# Altium integrated library ECEN5730Lib_JLC_2021_08.IntLib: 87 symbols
Pins are listed as number, name and electrical type; pins without a type are passive.

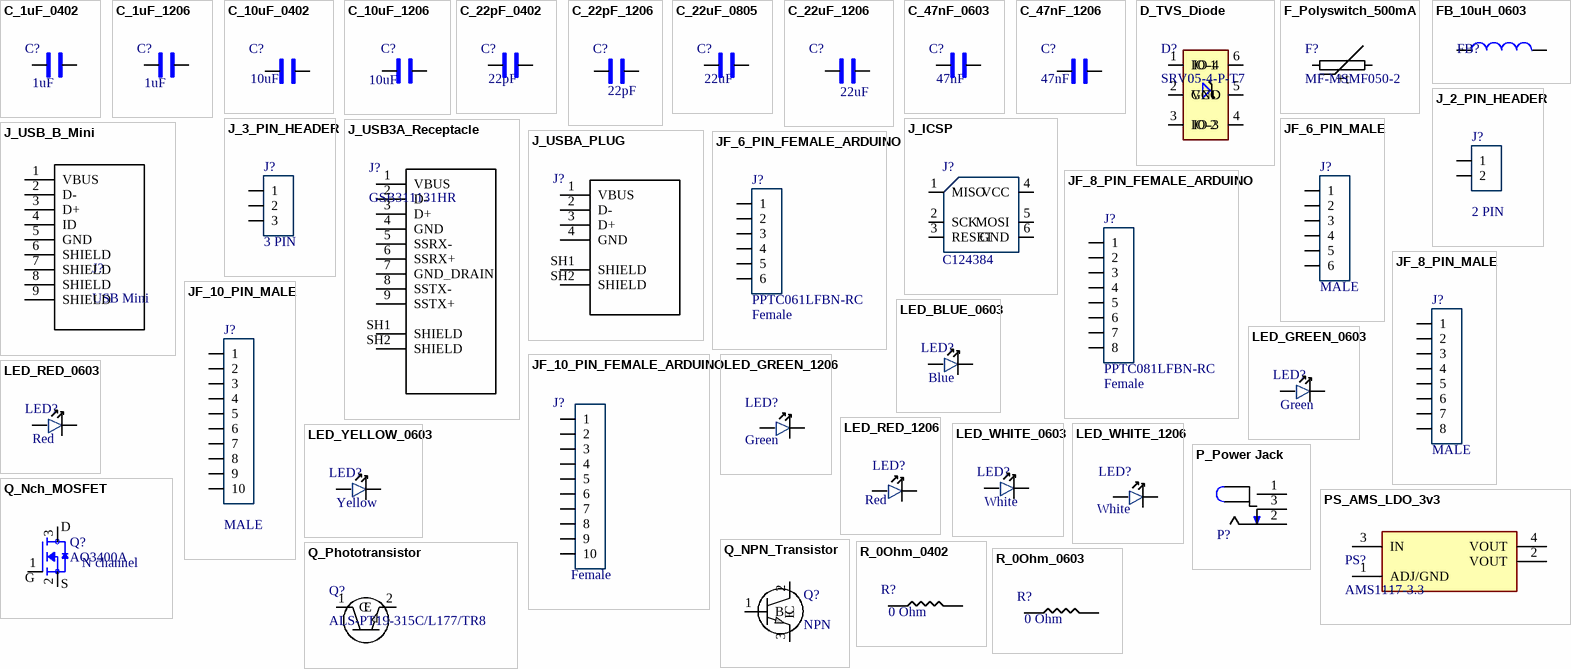
[diagram p0: symbols C_1uF_0402 to R_0Ohm_0603]

## C_1uF_0402
designator C?, comment 1uF
MULTILAYER CERAMIC CAPACITORS MLCC - SMD/SMT 1UF 25V 0402 ROHS; MFR Part #: CL05A105KA5NQNC; Type: Basic; Datasheet: https://datasheet.lcsc.com/szlcsc/Samsung-Electro-Mechanics-CL05A105KA5NQNC_C52923.pdf; LCSC Part#: C52923; Value: 1uF
footprint 0402_Passive_Capacitor (Reference: https://www.worthingtonassembly.com/perfect-0402-footprint)
pins: 1, 2

## C_1uF_1206
designator C?, comment 1uF
MULTILAYER CERAMIC CAPACITORS MLCC - SMD/SMT 1UF 50V 1206 ROHS; MFR Part #: CL31B105KBHNNNE; Type: Basic; Digikey Link: https://www.digikey.com/product-detail/en/C1206C105M4RACTU/399-8150-1-ND/3471873/?itemSeq=304982366; Digikey Part: 399-8150-1-ND; LCSC Part#: C1848; Value: 1uF
footprint 1206_Passive_Capacitor
pins: 1, 2

## C_10uF_0402
designator C?, comment 10uF
10uF ±20% 6.3V X5R 0402 Multilayer Ceramic Capacitors MLCC - SMD/SMT RoHS; MFR Part #: CL05A106MQ5NUNC; Type: Basic; LCSC Part#: C15525; Datasheet: https://datasheet.lcsc.com/lcsc/1810191215_Samsung-Electro-Mechanics-CL05A106MQ5NUNC_C15525.pdf; Value: 10uF
footprint 0402_Passive_Capacitor (Reference: https://www.worthingtonassembly.com/perfect-0402-footprint)
pins: 1, 2

## C_10uF_1206
designator C?, comment 10uF
10uF ±10% 50V X5R 1206 Multilayer Ceramic Capacitors MLCC - SMD/SMT RoHS; MFR Part #: CL31A106KBHNNNE; Type: Basic; LCSC Part#: C13585; Datasheet: https://datasheet.lcsc.com/lcsc/1810221112_Samsung-Electro-Mechanics-CL31A106KBHNNNE_C13585.pdf; Value: 10uF
footprint 1206_Passive_Capacitor
pins: 1, 2

## C_22pF_0402
designator C?, comment 22pF
MULTILAYER CERAMIC CAPACITORS MLCC - SMD/SMT 22PF 50V 0402 ROHS; MFR Part #: 0402CG220J500NT; Type: Basic; Datasheet: https://datasheet.lcsc.com/szlcsc/Guangdong-Fenghua-Advanced-Tech-0402CG220J500NT_C1555.pdf; LCSC Part#: C1555; Value: 22pF
footprint 0402_Passive_Capacitor (Reference: https://www.worthingtonassembly.com/perfect-0402-footprint)
pins: 1, 2

## C_22pF_1206
designator C?, comment 22pF
/ 22pF ±5% 1kV C0G 1206 Multilayer Ceramic Capacitors MLCC - SMD/SMT RoHS; MFR Part #: 1206CG220J102NT; Type: Extended; LCSC Part#: C313096; Datasheet: https://datasheet.lcsc.com/lcsc/1810311150_FH-Guangdong-Fenghua-Advanced-Tech-1206CG220J102NT_C313096.pdf; Value: 22pF
footprint 1206_Passive_Capacitor
pins: 1, 2

## C_22uF_0805
designator C?, comment 22uF
MULTILAYER CERAMIC CAPACITORS MLCC - SMD/SMT 22UF 25V 0805 ROHS; MFR Part #: CL21A226MAQNNNE; Type: Basic; Datasheet: https://datasheet.lcsc.com/szlcsc/Samsung-Electro-Mechanics-CL21A226MAQNNNE_C45783.pdf; LCSC Part#: C45783; Value: 22uF
footprint 0805_Passive_Capaciitor (Reference: http://livepartlibrary.com/fpdimensions.html)
pins: 1, 2

## C_22uF_1206
designator C?, comment 22uF
22uF ±10% 25V X5R 1206 Multilayer Ceramic Capacitors MLCC - SMD/SMT RoHS; MFR Part #: CL31A226KAHNNNE; Type: Extended; LCSC Part#: C12891; Datasheet: https://datasheet.lcsc.com/lcsc/1811031514_Samsung-Electro-Mechanics-CL31A226KAHNNNE_C12891.pdf; Value: 22uF
footprint 1206_Passive_Capacitor
pins: 1, 2

## C_47nF_0603
designator C?, comment 47nF
MULTILAYER CERAMIC CAPACITORS MLCC - SMD/SMT 47NF 50V 0603 ROHS; MFR Part #: CL10B473KB8NNNC; Type: Basic; Datasheet: https://datasheet.lcsc.com/szlcsc/Samsung-Electro-Mechanics-CL10B473KB8NNNC_C1622.pdf; LCSC Part#: C1622; Value: 47nF
footprint 0603_PASSIVE_Capacitor (Reference: http://livepartlibrary.com/fpdimensions.html)
pins: 1, 2

## C_47nF_1206
designator C?, comment 47nF
47nF ±5% 50V C0G 1206 Multilayer Ceramic Capacitors MLCC - SMD/SMT RoHS; MFR Part #: GRM31M5C1H473JA01L; Type: Extended; LCSC Part#: C21812; Datasheet: https://datasheet.lcsc.com/lcsc/1810201313_Murata-Electronics-GRM31M5C1H473JA01L_C21812.pdf; Value: 47nF
footprint 1206_Passive_Capacitor
pins: 1, 2

## D_TVS_Diode
designator D?, comment SRV05-4-P-T7
TVS SOT-23-6 ROHS; Value: TVS DIODE 5.5V 6TSOP; Type: Basic; MFR Part #: SRV05-4-P-T7; LCSC Part#: C85364; Datasheet: https://datasheet.lcsc.com/szlcsc/ProTek-Devices-SRV05-4-P-T7_C85364.pdf
footprint TVS
pins: 1 IO-1, 2 GND, 3 IO-2, 4 IO-3, 5 VCC, 6 IO-4

## F_Polyswitch_500mA
designator F?, comment MF-MSMF050-2
Polymeric PTC Resettable Fuse 15V 500mA Ih Surface Mount 1812 (4532 Metric), Concave; MFR Part #: SMD1812P020TF/30; Value: PTC RESET FUSE 15V 500MA 1812; Type: Extended; Digikey Link: https://www.digikey.com/product-detail/en/MF-MSMF050-2/MF-MSMF050-2CT-ND/662842/?itemSeq=304982360; Digikey Part: MF-MSMF050-2CT-ND; LCSC Part#: C13575
footprint FUSE
pins: 1, 2
text: +t

## FB_10uH_0603
designator FB?
10 uH, 30 Q, 1.85 Ohm Series Resistance, 17MHz Self Resonant Frequency,Inductor , SMD 0603, 3 Amps rated current; MFR Part #: SDFL1608S100KTF; Type: Basic; Datasheet: https://datasheet.lcsc.com/szlcsc/Sunlord-SDFL1608S100KTF_C1035.pdf; LCSC Part#: C1035
footprint 0603_PASSIVE_Capacitor (Reference: http://livepartlibrary.com/fpdimensions.html)
pins: 1, 2

## J_2_PIN_HEADER
designator J?, comment 2 PIN
2.54mm Straight 2 1 Header，Breakaway Through Hole,P=2.54mm Pin Header & Female Header ROHS; MFR Part #: MTP125-1102S1; Type: Extended; Datasheetxx: https://datasheet.lcsc.com/lcsc/1912111437_MINTRON-MTP125-1102S1_C358684.pdf; LCSC Part#: C358684; Value: 2 PIN
footprint 2_PIN_100MIL
pins: 1, 2

## J_3_PIN_HEADER
designator J?, comment 3 PIN
/ 3 2.54mm Straight 1 Header，Breakaway Through Hole Pin Header & Female Header ROHS; MFR Part #: C49257; Type: Extended; Datasheet: https://datasheet.lcsc.com/lcsc/1811132313_BOOMELE-Boom-Precision-Elec-C49257_C49257.pdf; LCSC Part#: C49257; Value: 3 PIN
footprint 3_PIN_100mil
pins: 1, 2, 3

## J_ICSP
designator J?, comment LCSC Part#: C124384  (hidden comment: NRPN032PAEN-RC)
Connector Header Through Hole 6 position 0.079" (2.00mm); Digikey Link: https://www.digikey.com/product-detail/en/NRPN032PAEN-RC/S5801-03-ND/804955/?itemSeq=304982355; Digikey Part: S5801-03-ND; Value: NRPN032PAEN-RC; Type: Extended
footprint ICSP
pins: 1 MISO, 2 SCK, 3 RESET, 4 VCC, 5 MOSI, 6 GND

## J_USB3A_Receptacle
designator J?, comment GSB311131HR
USB-A _USB TYPE-A_ USB 3.0 _USB 3.1 Gen 1, Superspeed_ Receptacle Connector 9 Position Through Hole, Right Angle; MFR Part #: 901-112A105AD10100; Digi-Key_Purchase_URL: https://www.digikey.ru/product-detail/en/amphenol-icc-commercial-products/GSB311131HR/GSB311131HR-ND/2187173?utm_source=snapeda&utm_medium=aggregator&utm_campaign=symbol; Datasheet: https://datasheet.lcsc.com/szlcsc/1811131822_Jing-Extension-of-the-Electronic-Co-901-112A105AD10100_C69073.pdf; MP: GSB311131HR; SnapEDA_Link: https://www.snapeda.com/parts/GSB311131HR/Amphenol%20FCI/view-part/229215/?ref=snap; LCSC Part#: C69073
footprint USB_3A_Receptacle
pins: 1 VBUS, 2 D-, 3 D+, 4 GND, 5 SSRX-, 6 SSRX+, 7 GND_DRAIN, 8 SSTX-, 9 SSTX+, SH1 SHIELD, SH2 SHIELD

## J_USB_B_Mini
designator J?, comment USB Mini
Through Hole USB Connectors RoHS; MFR Part #: 920-462A2021D10102; Value: USB mini B; LCSC Part#: C46398; Datasheet: https://datasheet.lcsc.com/szlcsc/2103081233_Jing-Extension-of-the-Electronic-Co-920-462A2021D10102_C46398.pdf; Type: Extended
footprint USB_MINI_B
pins: 1 VBUS, 2 D-, 3 D+, 4 ID, 5 GND, 6 SHIELD, 7 SHIELD, 8 SHIELD, 9 SHIELD

## J_USBA_PLUG
designator J?, comment USB - Type A Male  (value not drawn)
USB - Type A Male USB 2.0 4 18.7*12(mm) USB Connectors RoHS; MFR Part #: U-G-O4DD-W-1; LCSC Part#: C98125; Datasheet: https://datasheet.lcsc.com/szlcsc/1811131820_Korean-Hroparts-Elec-U-G-O4DD-W-1_C98125.pdf; Type: Extended
footprint USB_A_plug
pins: 1 VBUS, 2 D-, 3 D+, 4 GND, SH1 SHIELD, SH2 SHIELD

## JF_6_PIN_FEMALE_ARDUINO
designator J?, comment PPTC061LFBN-RC  value Female
6 Position Header Connector 0.100" (2.54mm) Through Hole Tin; Digikey Link: https://www.digikey.com/product-detail/en/PPTC061LFBN-RC/S7004-ND/810145/?itemSeq=304982353; Digikey Part: S7004-ND; LCSC Part#: C40877; Type: Extended
footprint 6_PIN_ARDUINO_100mil
pins: 1, 2, 3, 4, 5, 6

## JF_6_PIN_MALE
designator J?, comment MALE
Male header- 6 pin 1 row- through Hole; LCSC Part#: C37208; Datasheet: https://datasheet.lcsc.com/szlcsc/1810312320_BOOMELE-Boom-Precision-Elec-C37208_C37208.pdf; Type: Extended; Value: MALE
footprint 6_PIN_100MIL
pins: 1, 2, 3, 4, 5, 6

## JF_8_PIN_FEMALE_ARDUINO
designator J?, comment PPTC081LFBN-RC  value Female
8 Position Header Connector 0.100" (2.54mm) Through Hole Tin; Digikey Link: https://www.digikey.com/product-detail/en/PPTC081LFBN-RC/S7006-ND/810147/?itemSeq=304982354; Digikey Part: S7006-ND; Type: Extended; LCSC Part#: C27438
footprint 8_PIN_ARDUINO_100MIL
pins: 1, 2, 3, 4, 5, 6, 7, 8

## JF_8_PIN_MALE
designator J?, comment value MALE  (hidden comment: MALE 8PIN)
Pin Header 8 1 right-angle，180degrees 2.54mm Through Hole,P=2.54mm Pin Header & Female Header RoHS; LCSC Part#: C492407; Datasheet: https://datasheet.lcsc.com/szlcsc/2003191006_XFCN-PZ254V-11-08P_C492407.pdf; Type: Extended
footprint 8_PIN_100MIL
pins: 1, 2, 3, 4, 5, 6, 7, 8

## JF_10_PIN_FEMALE_ARDUINO
designator J?, comment value Female  (hidden comment: PPTC101LFBN-RC)
10 Position Header Connector 0.100" (2.54mm) Through Hole Tin; Digikey Link: https://www.digikey.com/product-detail/en/PPTC101LFBN-RC/S7008-ND/810149/?itemSeq=304982352; Digikey Part: S7008-ND; LCSC Part#: C225507; Type: Extended
footprint 10_PIN_ARDUINO_100MIL
pins: 1, 2, 3, 4, 5, 6, 7, 8, 9, 10

## JF_10_PIN_MALE
designator J?, comment value MALE  (hidden comment: MALE 10PIN)
Pin Header 10 1 right-angle，180degrees 2.54mm Through Hole,P=2.54mm Pin Header & Female Header RoHS; LCSC Part#: C124372; Type: Extended; Datasheet: https://datasheet.lcsc.com/szlcsc/1810241611_Ckmtw-Shenzhen-Cankemeng-C124372_C124372.pdf
footprint 10_PIN_100MIL
pins: 1, 2, 3, 4, 5, 6, 7, 8, 9, 10

## LED_BLUE_0603
designator LED?, comment value Blue  (hidden comment: KT-0603R)
LIGHT EMITTING DIODES (LED) BLUE 465~475NM 11.5~28.5MCD@5MA TOP VIEW 0603 ROHS; MFR Part #: 19-217/BHC-ZL1M2RY/3T; Type: Basic; LCSC Part#: C72041
footprint LED_0603
pins: 1, 2

## LED_GREEN_0603
designator LED?, comment value Green  (hidden comment: KT-0603R)
LIGHT EMITTING DIODES (LED) GREEN 520~535NM 112~258MCD@20MA TOP VIEW 0603 ROHS; MFR Part #: 19-217/GHC-YR1S2/3T; Type: Basic; LCSC Part#: C72043
footprint LED_0603
pins: 1, 2

## LED_GREEN_1206
designator LED?, comment Green
Green 513~528nm 1206 Light Emitting Diodes (LED) RoHS; MFR Part #: SZYY1206G; Type: Extended; LCSC Part#: C434439; Datasheet: https://datasheet.lcsc.com/lcsc/2006301532_Yongyu-Photoelectric-SZYY1206G_C434439.pdf; Value: Green
footprint LED_1206
pins: 1, 2

## LED_RED_0603
designator LED?, comment value Red  (hidden comment: KT-0603R)
LIGHT EMITTING DIODES (LED) RED 520~625NM 90~100MCD@20MA TOP VIEW 0603 ROHS; Type: Basic; Datasheet: https://datasheet.lcsc.com/szlcsc/Everlight-Elec-19-217-BHC-ZL1M2RY-3T_C72041.pdf; MFR Part #: KT-0603R; LCSC Part#: C2286
footprint LED_0603
pins: 1, 2

## LED_RED_1206
designator LED?, comment Red
Red 621~631nm 1206 Light Emitting Diodes (LED) RoHS; MFR Part #: 15-21/R6C-FQ1R1B/2T; Type: Extended; LCSC Part#: C93133; Datasheet: https://datasheet.lcsc.com/szlcsc/1811151241_Everlight-Elec-15-21-R6C-FQ1R1B-2T_C93133.pdf; Value: Red
footprint LED_1206
pins: 1, 2

## LED_WHITE_0603
designator LED?, comment value White  (hidden comment: KT-0603R)
LIGHT EMITTING DIODES (LED) WHITE 173~207MCD@20MA TOP VIEW 0603 ROHS; Type: Basic; MFR Part #: -; LCSC Part#: C2290
footprint LED_0603
pins: 1, 2

## LED_WHITE_1206
designator LED?, comment White
White 1206 Light Emitting Diodes (LED) RoHS; MFR Part #: OSM51206C1E; Type: Extended; LCSC Part#: C268282; Datasheet: https://datasheet.lcsc.com/lcsc/1912111437_OptoSupply-OSM51206C1E_C268282.pdf; Value: White
footprint LED_1206
pins: 1, 2

## LED_YELLOW_0603
designator LED?, comment value Yellow  (hidden comment: KT-0603R)
LIGHT EMITTING DIODES (LED) YELLOW 585.5~591.5NM 90~180MCD@20MA TOP VIEW 0603 ROHS; MFR Part #: 19-213/Y2C-CQ2R2L/3T(CY); Type: Basic; Datasheet: https://datasheet.lcsc.com/szlcsc/Everlight-Elec-19-217-BHC-ZL1M2RY-3T_C72041.pdf; LCSC Part#: C72038
footprint LED_0603
pins: 1, 2

## P_Power Jack
designator P?, comment Power Jack  (value not drawn)
Power Barrel Connector Jack 2.10mm ID (0.083"), 5.50mm OD (0.217") Through Hole, Right Angle; Value: CONN PWR JACK 2X5.5MM SOLDER; Digikey Link: https://www.digikey.com/product-detail/en/PJ-102A/CP-102A-ND/275425/?itemSeq=304982367; Digikey Part: CP-102A-ND; LCSC Part#: C136744; Type: Extended
footprint Power_Jack
pins: 1 (power), 2 (power), 3 (power)

## PS_AMS_LDO_3v3
designator PS?, comment AMS1117-3.3
LOW DROPOUT REGULATORS(LDO) POSITIVE FIXED 1.3V @ 800MA 15V 3.3V 1A SOT-223 ROHS; Value: IC REG LINEAR 3.3V 800MA SOT223; MFR Part #: AMS1117-3.3; LCSC Part#: C6186; Type: Basic
footprint LDO
pins: 1 ADJ/GND, 2 VOUT (power), 3 IN (power), 4 VOUT (power)

## Q_Nch_MOSFET
designator Q?, comment AO3400A  value N channel
MOSFET N Trench 30V 5.7A 1.5V @ 250uA 26.5 m? @ 5.7A,10V SOT-23-3L RoHS; Type: Basic; LCSC Part#: C20917; Datasheet: https://datasheet.lcsc.com/szlcsc/Alpha-Omega-Semicon-AOS-AO3400A_C20917.pdf; MFR Part #: AO3400A
footprint N-MOSFET
pins: 1 G, 2 S, 3 D

## Q_NPN_Transistor
designator Q?, comment NPN
NPN 3A 30V 500mW SOT-89(SOT-89-3) Transistors (NPN/PNP) RoHS; Type: Basic; Datasheet: https://datasheet.lcsc.com/lcsc/1809192311_Changjiang-Electronics-Tech-CJ-C9634_C9634.pdf; LCSC Part#: C9634; Value: NPN
footprint Q_SOT89-3
pins: 1 B, 2 C, 3 E

## Q_Phototransistor
designator Q?, comment ALS-PT19-315C/L177/TR8
Ambient Light Sensor; Type: Extended; Datasheet: https://www.everlight.com/file/ProductFile/201407061531031645.pdf; MFR Part #: ALS-PT19-315C/L177/TR8; LCSC Part#: C146233
footprint LED_77/TR8_EVE
pins: 1 C, 2 E

## R_0Ohm_0402
designator R?, comment 0 Ohm
CHIP RESISTOR - SURFACE MOUNT 0OHMS ±1% 1/16W 0402 ROHS; MFR Part #: 0402WGF0000TCE; Datasheet: https://datasheet.lcsc.com/szlcsc/Uniroyal-Elec-0402WGF0000TCE_C17168.pdf; LCSC Part#: C17168; Type: Basic; Value: 0 Ohm
footprint 0402_Passive_Resistor (Reference: https://www.worthingtonassembly.com/perfect-0402-footprint)
pins: 1, 2

## R_0Ohm_0603
designator R?, comment 0 Ohm
CHIP RESISTOR - SURFACE MOUNT 0OHMS ±1% 1/10W 0603 ROHS; MFR Part #: 0603WAF0000T5E; Datasheet: https://datasheet.lcsc.com/szlcsc/Uniroyal-Elec-0603WAF200KT5E_C22977.pdf; LCSC Part#: C21189; Type: Basic; Value: 0 Ohm
footprint 0603_PASSIVE_Resistor (Reference: http://livepartlibrary.com/fpdimensions.html)
pins: 1, 2

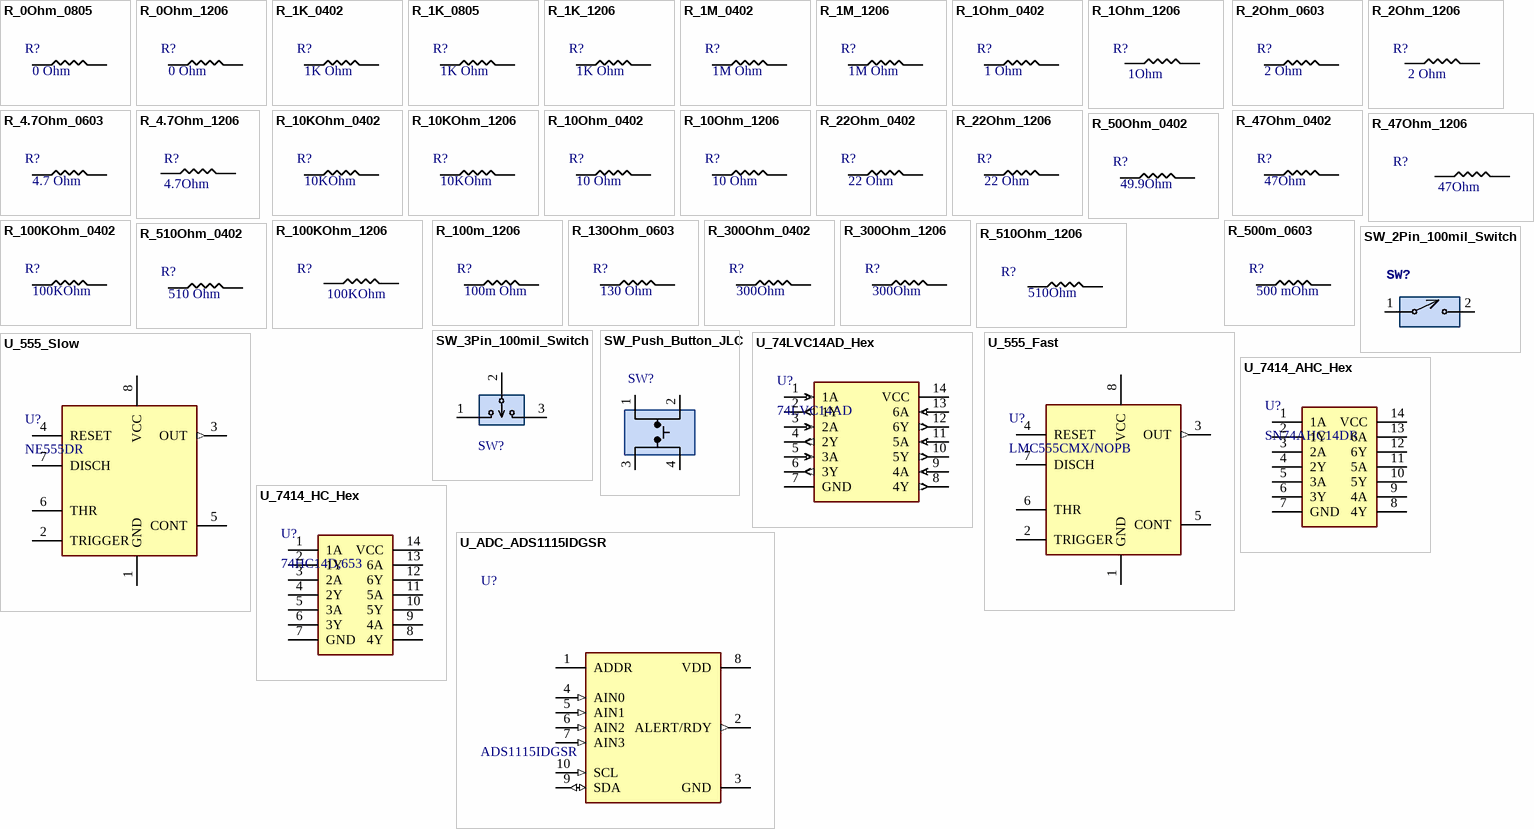
[diagram p1: symbols R_0Ohm_0805 to U_ADC_ADS1115IDGSR]

## R_0Ohm_0805
designator R?, comment value 0 Ohm  (hidden comment: 0)
CHIP RESISTOR - SURFACE MOUNT 0OHMS ±1% 1/8W 0805 ROHS; MFR Part#: 0805W8F0000T5E; LCSC Part #: C17477; Type: Basic
footprint 0805_Passive_Resistor (Reference: http://livepartlibrary.com/fpdimensions.html)
pins: 1, 2

## R_0Ohm_1206
designator R?, comment value 0 Ohm  (hidden comment: 0)
CHIP RESISTOR - SURFACE MOUNT 0OHMS ±1% 1/4W 1206 ROHS; Digikey Link: https://datasheet.lcsc.com/szlcsc/Uniroyal-Elec-1206W4F0000T5E_C17888.pdf; Digikey Part: 1206W4F0000T5E; LCSC Part#: C17888; Type: Basic
footprint 1206_Passive_Resitor
pins: 1, 2

## R_1K_0402
designator R?, comment value 1K Ohm  (hidden comment: 1k)
1 kOhms chip resistor SURFACE MOUNT 1KOHMS ±1% 1/16W 0402 ROHS; MFR Part #: 0402WGF1001TCE; Datasheet: https://datasheet.lcsc.com/szlcsc/Uniroyal-Elec-0402WGF1001TCE_C11702.pdf; LCSC Part#: C11702; Type: Basic
footprint 0402_Passive_Resistor (Reference: https://www.worthingtonassembly.com/perfect-0402-footprint)
pins: 1, 2

## R_1K_0805
designator R?, comment value 1K Ohm  (hidden comment: 1k)
CHIP RESISTOR - SURFACE MOUNT 1KOHMS ±1% 1/8W 0805 ROHS; MFR Part #: 0805W8F1001T5E; LCSC Part#: C17513; Type: Basic
footprint 0805_Passive_Resistor (Reference: http://livepartlibrary.com/fpdimensions.html)
pins: 1, 2

## R_1K_1206
designator R?, comment value 1K Ohm  (hidden comment: 1k)
CHIP RESISTOR - SURFACE MOUNT 1KOHMS ±1% 1/4W 1206 ROHS; MFR Part #: 1206W4F1001T5; Digikey Link: https://www.digikey.com/product-detail/en/RNCP1206FTD1K00/RNCP1206FTD1K00CT-ND/2240675/?itemSeq=304982373; Digikey Part: RNCP1206FTD1K00CT-ND; LCSC Part#: C4410; Type: Basic
footprint 1206_Passive_Resitor
pins: 1, 2

## R_1M_0402
designator R?, comment value 1M Ohm  (hidden comment: 1M)
CHIP RESISTOR - SURFACE MOUNT 1MOHMS ±1% 1/16W 0402 ROHS; MFR Part #: 0402WGF1004TCE; Datasheet: Uniroyal-Elec-0402WGF1004TCE_C26083.pdf; Digikey Part: https://datasheet.lcsc.com/szlcsc/Uniroyal-Elec-0402WGF1004TCE_C26083.pdf; LCSC Part#: C26083; Type: Basic
footprint 0402_Passive_Resistor (Reference: https://www.worthingtonassembly.com/perfect-0402-footprint)
pins: 1, 2

## R_1M_1206
designator R?, comment value 1M Ohm  (hidden comment: 1M)
CHIP RESISTOR - SURFACE MOUNT 1MOHMS ±1% 1/4W 1206 ROHS; Digikey Link: https://www.digikey.com/product-detail/en/RMCF1206JT1M00/RMCF1206JT1M00CT-ND/1942830/?itemSeq=304982358; Digikey Part: Number RMCF1206JT1M00CT-ND; LCSC Part#: C17927; Type: Basic
footprint 1206_Passive_Resitor
pins: 1, 2

## R_1Ohm_0402
designator R?, comment 1 Ohm
CHIP RESISTOR - SURFACE MOUNT 1OHMS ±1% 1/16W 0402 ROHS; MFR Part #: 0402WGF100KTCE; Datasheet: https://datasheet.lcsc.com/szlcsc/Uniroyal-Elec-0402WGF100KTCE_C25086.pdf; LCSC Part#: C25086; Type: Basic; Value: 1 Ohm
footprint 0402_Passive_Resistor (Reference: https://www.worthingtonassembly.com/perfect-0402-footprint)
pins: 1, 2

## R_1Ohm_1206
designator R?, comment value 1Ohm  (hidden comment: 1 Ohm)
1Ω ±5% 0.25W ±400ppm/℃ 1206 Chip Resistor - Surface Mount RoHS; MFR Part #: 1206W4J010JT5E; LCSC Part#: C1409; Datasheet: https://datasheet.lcsc.com/lcsc/1810301410_UNI-ROYAL-Uniroyal-Elec-1206W4J010JT5E_C1409.pdf; Type: Extended
footprint 1206_Passive_Resitor
pins: 1, 2

## R_2Ohm_0603
designator R?, comment 2 Ohm
CHIP RESISTOR - SURFACE MOUNT 2OHMS ±1% 1/10W 0603 ROHS; MFR Part #: 0603WAF200KT5E; Datasheet: https://datasheet.lcsc.com/szlcsc/Uniroyal-Elec-0603WAF200KT5E_C22977.pdf; LCSC Part#: C22977; Type: Basic; Value: 2 Ohm
footprint 0603_PASSIVE_Resistor (Reference: http://livepartlibrary.com/fpdimensions.html)
pins: 1, 2

## R_2Ohm_1206
designator R?, comment value 2 Ohm  (hidden comment: 2Ohm)
2Ω ±1% 0.25W ±400ppm/℃ 1206 Chip Resistor - Surface Mount RoHS; MFR Part #: 1206W4F200KT5E; LCSC Part#: C17942; Datasheet: https://datasheet.lcsc.com/lcsc/1809050635_UNI-ROYAL-Uniroyal-Elec-1206W4F200KT5E_C17942.pdf; Type: Extended
footprint 1206_Passive_Resitor
pins: 1, 2

## R_4.7Ohm_0603
designator R?, comment 4.7 Ohm
CHIP RESISTOR - SURFACE MOUNT 4.7OHMS ±1% 1/10W 0603 ROHS; MFR Part #: 0603WAF470KT5E; Datasheet: https://datasheet.lcsc.com/szlcsc/Uniroyal-Elec-0603WAF470KT5E_C23164.pdf; LCSC Part#: C23164; Type: Basic; Value: 4.7 Ohm
footprint 0603_PASSIVE_Resistor (Reference: http://livepartlibrary.com/fpdimensions.html)
pins: 1, 2

## R_4.7Ohm_1206
designator R?, comment 4.7Ohm
4.7Ω ±5% 0.25W ±400ppm/℃ 1206 Chip Resistor - Surface Mount RoHS; MFR Part #: 1206W4J047JT5E; LCSC Part#: C25385; Datasheet: https://datasheet.lcsc.com/lcsc/1811022210_UNI-ROYAL-Uniroyal-Elec-1206W4J047JT5E_C25385.pdf; Type: Extended; Value: 4.7Ohm
footprint 1206_Passive_Resitor
pins: 1, 2

## R_10KOhm_0402
designator R?, comment value 10KOhm  (hidden comment: 10k)
CHIP RESISTOR - SURFACE MOUNT 10KOHMS ±1% 1/16W 0402 ROHS; MFR Part #: 0402WGF1002TCE; Datasheet: https://datasheet.lcsc.com/szlcsc/Uniroyal-Elec-0402WGF1002TCE_C25744.pdf; LCSC Part#: C25744; Type: Basic
footprint 0402_Passive_Resistor (Reference: https://www.worthingtonassembly.com/perfect-0402-footprint)
pins: 1, 2

## R_10KOhm_1206
designator R?, comment value 10KOhm  (hidden comment: 10k)
10 kOhms ±5% 0.25W, 1/4W Chip Resistor 1206 (3216 Metric) Automotive AEC-Q200 Thick Film; Digikey Link: https://www.digikey.com/product-detail/en/RMCF1206JT300R/RMCF1206JT300RCT-ND/1942776/?itemSeq=304982374; Digikey Part: RMCF1206JT300RCT-ND; LCSC Part#: C17902; Type: Basic
footprint 1206_Passive_Resitor
pins: 1, 2

## R_10Ohm_0402
designator R?, comment 10 Ohm
CHIP RESISTOR - SURFACE MOUNT 10OHMS ±1% 1/16W 0402 ROHS; MFR Part #: 0402WGF100JTCE; Datasheet: https://datasheet.lcsc.com/szlcsc/Uniroyal-Elec-0402WGF100JTCE_C25077.pdf; LCSC Part#: C25077; Type: Basic; Value: 10 Ohm
footprint 0402_Passive_Resistor (Reference: https://www.worthingtonassembly.com/perfect-0402-footprint)
pins: 1, 2

## R_10Ohm_1206
designator R?, comment 10 Ohm
CHIP RESISTOR - SURFACE MOUNT 0.1OHMS ±1% 1/4W 1206 ROHS; MFR Part #: 1206W4F100JT5E; Datasheet: https://datasheet.lcsc.com/szlcsc/Uniroyal-Elec-1206W4F100JT5E_C17903.pdf; LCSC Part#: C17903; Type: Basic; Value: 10 Ohm
footprint 1206_Passive_Resitor
pins: 1, 2

## R_22Ohm_0402
designator R?, comment value 22 Ohm  (hidden comment: 22Ohm)
CHIP RESISTOR - SURFACE MOUNT 22OHMS ±1% 1/16W 0402 ROHS; MFR Part #: 0402WGF220JTCE; Datasheet: https://datasheet.lcsc.com/szlcsc/Uniroyal-Elec-0402WGF220JTCE_C25092.pdf; LCSC Part#: C25092; Type: Basic
footprint 0402_Passive_Resistor (Reference: https://www.worthingtonassembly.com/perfect-0402-footprint)
pins: 1, 2

## R_22Ohm_1206
designator R?, comment value 22 Ohm  (hidden comment: 22Ohm)
CHIP RESISTOR - SURFACE MOUNT 22OHMS ±1% 1/4W 1206 ROHS; MFR Part #: 1206W4F220JT5E; Type: Basic; LCSC Part#: C17958
footprint 1206_Passive_Resitor
pins: 1, 2

## R_47Ohm_0402
designator R?, comment value 47Ohm  (hidden comment: 47 Ohms)
CHIP RESISTOR - SURFACE MOUNT 47OHMS ±1% 1/16W 0402 ROHS; MFR Part #: 0402WGF470JTCE; Datasheet: https://datasheet.lcsc.com/szlcsc/Uniroyal-Elec-0402WGF470JTCE_C25118.pdf; LCSC Part#: C25118; Type: Basic
footprint 0402_Passive_Resistor (Reference: https://www.worthingtonassembly.com/perfect-0402-footprint)
pins: 1, 2

## R_47Ohm_1206
designator R?, comment value 47Ohm  (hidden comment: 47 Ohms)
47Ω ±5% 0.25W ±200ppm/℃ 1206 Chip Resistor - Surface Mount RoHS; MFR Part #: 1206W4J0470T5E; LCSC Part#: C25384; Type: Extended; Datasheet: https://datasheet.lcsc.com/lcsc/1811101020_UNI-ROYAL-Uniroyal-Elec-1206W4J0470T5E_C25384.pdf
footprint 1206_Passive_Resitor
pins: 1, 2

## R_50Ohm_0402
designator R?, comment value 49.9Ohm  (hidden comment: 50 Ohms)
CHIP RESISTOR - SURFACE MOUNT 49.9OHMS ±1% 1/16W 0402 ROHS; MFR Part #: 0402WGF499JTCE; Datasheet: https://datasheet.lcsc.com/szlcsc/Uniroyal-Elec-0402WGF499JTCE_C25120.pdf; LCSC Part#: C25120; Type: Basic
footprint 0402_Passive_Resistor (Reference: https://www.worthingtonassembly.com/perfect-0402-footprint)
pins: 1, 2

## R_100KOhm_0402
designator R?, comment value 100KOhm  (hidden comment: 10k)
CHIP RESISTOR - SURFACE MOUNT 100KOHMS ±1% 1/16W 0402 ROHS; LCSC Part#: C25741; Type: Basic
footprint 0402_Passive_Resistor (Reference: https://www.worthingtonassembly.com/perfect-0402-footprint)
pins: 1, 2

## R_100KOhm_1206
designator R?, comment 100KOhm
100kΩ ±1% 0.25W ±100ppm/℃ 1206 Chip Resistor - Surface Mount RoHS; MFR Part #: 1206W4F1003T5E; LCSC Part#: C17900; Datasheet: https://datasheet.lcsc.com/lcsc/1810301421_UNI-ROYAL-Uniroyal-Elec-1206W4F1003T5E_C17900.pdf; Type: Basic; Value: 100KOhm
footprint 1206_Passive_Resitor
pins: 1, 2

## R_100m_1206
designator R?, comment value 100m Ohm  (hidden comment: 100m)
CHIP RESISTOR - SURFACE MOUNT 0.1OHMS ±1% 1/4W 1206 ROHS; MFR Part #: 1206W4F100LT5E; Digikey Link: https://www.digikey.com/product-detail/en/RNCP1206FTD1K00/RNCP1206FTD1K00CT-ND/2240675/?itemSeq=304982373; Digikey Part: RNCP1206FTD1K00CT-ND; LCSC Part #: C25334; Type: Basic
footprint 1206_Passive_Resitor
pins: 1, 2

## R_130Ohm_0603
designator R?, comment 130 Ohm
CHIP RESISTOR - SURFACE MOUNT 130OHMS ±1% 1/10W 0603 ROHS; MFR Part #: 0603WAF1300T5E; Datasheet: https://datasheet.lcsc.com/szlcsc/Uniroyal-Elec-0603WAF1300T5E_C22796.pdf; LCSC Part#: C22796; Type: Basic; Value: 130 Ohm
footprint 0603_PASSIVE_Resistor (Reference: http://livepartlibrary.com/fpdimensions.html)
pins: 1, 2

## R_300Ohm_0402
designator R?, comment value 300Ohm  (hidden comment: 300)
CHIP RESISTOR - SURFACE MOUNT 300OHMS ±1% 1/16W 0402 ROHS; MFR Part #: 0402WGF3000TCE; Datasheet: https://datasheet.lcsc.com/szlcsc/Uniroyal-Elec-0402WGF3000TCE_C25102.pdf; LCSC Part#: C25102; Type: Basic
footprint 0402_Passive_Resistor (Reference: https://www.worthingtonassembly.com/perfect-0402-footprint)
pins: 1, 2

## R_300Ohm_1206
designator R?, comment value 300Ohm  (hidden comment: 300)
CHIP RESISTOR - SURFACE MOUNT 300OHMS ±1% 1/4W 1206 ROHS; MFR Part #: 1206W4F3000T5E; Datasheet: https://datasheet.lcsc.com/szlcsc/Uniroyal-Elec-1206W4F3000T5E_C17887.pdf; LCSC Part#: C17887; Type: Basic
footprint 1206_Passive_Resitor
pins: 1, 2

## R_500m_0603
designator R?, comment value 500 mOhm  (hidden comment: 500m)
CHIP RESISTOR - SURFACE MOUNT 0.5OHMS ±1% 1/10W 0603 ROHS; MFR Part #: 0603WAF500LT5E; Datasheet: https://datasheet.lcsc.com/szlcsc/SUP-MRMF3216-1206-LR005FTN_C76290.pdf; LCSC Part#: C45312; Type: Extended
footprint 0603_PASSIVE_Resistor (Reference: http://livepartlibrary.com/fpdimensions.html)
pins: 1, 2

## R_510Ohm_0402
designator R?, comment value 510 Ohm  (hidden comment: 510Ohm)
CHIP RESISTOR - SURFACE MOUNT 510OHMS ±1% 1/16W 0402 ROHS; MFR Part #: 0402WGF5100TCE; Datasheet: https://datasheet.lcsc.com/szlcsc/Uniroyal-Elec-0402WGF5100TCE_C25123.pdf; LCSC Part#: C25123; Type: Basic
footprint 0402_Passive_Resistor (Reference: https://www.worthingtonassembly.com/perfect-0402-footprint)
pins: 1, 2

## R_510Ohm_1206
designator R?, comment 510Ohm
510Ω ±5% 0.25W ±100ppm/℃ 1206 Chip Resistor - Surface Mount RoHS; MFR Part #: 1206W4J0511T5E; LCSC Part#: C25386; Type: Extended; Datasheet: https://datasheet.lcsc.com/lcsc/1810301437_UNI-ROYAL-Uniroyal-Elec-1206W4J0511T5E_C25386.pdf; Value: 510Ohm
footprint 1206_Passive_Resitor
pins: 1, 2

## SW_2Pin_100mil_Switch
designator SW?
2Pin Header; LCSC Part#: C124375; Type: Extended
footprint 2Pin-Header-Conn
pins: 1, 2

## SW_3Pin_100mil_Switch
designator SW?, comment PREC003SAAN-RC  (value not drawn)
Connector Header Through Hole 3 position 0.100" (2.54mm); Value: CONN HEADER VERT 3POS 2.54MM; Digikey Link: https://www.digikey.com/product-detail/en/PREC003SAAN-RC/S1012EC-03-ND/2774851/?itemSeq=304982371; Digikey Part: S1012EC-03-ND; Type: Extended; LCSC Part#: C429954
footprint 3_PIN_100mil
pins: 1, 2, 3

## SW_Push_Button_JLC
designator SW?, comment TL3305AF160QG  (value not drawn)
Tactile Switch SPST-NO Top Actuated Surface Mount; MFR Part #: C174049; LCSC Part#: C174049; Type: Extended
footprint Switch_JLC
pins: 1, 2, 3, 4

## U_74LVC14AD_Hex
designator U?, comment 74LVC14AD
SOIC-14_150mil 74 Series RoHS; SourceLibrary: Nexperia_2018-05-2018; LCSC Part#: C6065; MFR Part #: 74LVC14AD; Copyright: Copyright (C) 2016 Accelerated Designs. All rights reserved; Type: Extended
footprint HEX_74AC14
pins: 1 1A (in), 2 1Y (out), 3 2A (in), 4 2Y (out), 5 3A (in), 6 3Y (out), 7 GND (power), 8 4Y (out), 9 4A (in), 10 5Y (out), 11 5A (in), 12 6Y (out), 13 6A (in), 14 VCC (power)

## U_555_Fast
designator U?, comment LMC555CMX/NOPB
555 Type, Timer/Oscillator _Single_ IC 3MHz 8-SO; Package: SOIC-8; MFR Part #: LMC555CMX/NOPB; DigiKey-Purchase-URL: https://www.digikey.com/product-detail/en/texas-instruments/LMC555CMX-NOPB/LMC555CMX-NOPBCT-ND/1010550; LCSC Part#: C90760; Type: Extended
footprint TS555IDTTR (IC OSC Single Timer 2.7MHz 8SOIC)
pins: 1 GND (power), 2 TRIGGER, 3 OUT (out), 4 RESET, 5 CONT, 6 THR, 7 DISCH, 8 VCC (power)

## U_555_Slow
designator U?, comment NE555DR
555 Timer SOIC-8_150MIL ROHS 150ns Rise Time; MFR Part #: NE555DR; Digikey Link: https://www.digikey.com/product-detail/en/texas-instruments/NE555DR/296-6501-1-ND/372490; Type: Basic; LCSC Part#: C7593
footprint TS555IDTTR (IC OSC Single Timer 2.7MHz 8SOIC)
pins: 1 GND (power), 2 TRIGGER, 3 OUT (out), 4 RESET, 5 CONT, 6 THR, 7 DISCH, 8 VCC (power)

## U_7414_AHC_Hex
designator U?, comment SN74AHC14DR
Inverter IC 6 Channel Schmitt Trigger 14-SOIC; Datasheet: https://datasheet.lcsc.com/szlcsc/ON-Semicon-ON-74AC14SCX_C5482.pdf; MFR Part #: SN74AHC14DR; LCSC Part#: C6942; Type: Extended
footprint HEX_74AC14
pins: 1 1A, 2 1Y, 3 2A, 4 2Y, 5 3A, 6 3Y, 7 GND, 8 4Y, 9 4A, 10 5Y, 11 5A, 12 6Y, 13 6A, 14 VCC

## U_7414_HC_Hex
designator U?, comment 74HC14D,653
Inverter IC 6 Channel Schmitt Trigger 14-SOIC; Datasheet: https://datasheet.lcsc.com/szlcsc/ON-Semicon-ON-74AC14SCX_C5482.pdf; MFR Part #: 74HC14D,653; LCSC Part#: C5605; Type: Basic
footprint HEX_74AC14
pins: 1 1A, 2 1Y, 3 2A, 4 2Y, 5 3A, 6 3Y, 7 GND, 8 4Y, 9 4A, 10 5Y, 11 5A, 12 6Y, 13 6A, 14 VCC

## U_ADC_ADS1115IDGSR
designator U?, comment ADS1115IDGSR
16-Bit ADC with Integrated MUX, PGA, Comparator, Oscillator, and Reference 10-VSSOP -40 to 125; MFR Part #: ADS1115IDGSR; Package: MSOP-10 Texas Instruments; LCSC Part#: C37593; SnapEDA_Link: https://www.snapeda.com/parts/ADS1115IDGSR/Texas%20Instruments/view-part/?ref=snap; Type: Extended; Digi-Key_Purchase_URL: https://www.digikey.com/product-detail/en/texas-instruments/ADS1115IDGSR/296-38849-1-ND/5142969?utm_source=snapeda&utm_medium=aggregator&utm_campaign=symbol; Value: *
footprint ADC_ADS1115IDGSR (*SOP50P490X110-10N)
pins: 1 ADDR, 2 ALERT/RDY (out), 3 GND (power), 4 AIN0 (in), 5 AIN1 (in), 6 AIN2 (in), 7 AIN3 (in), 8 VDD (power), 9 SDA (io), 10 SCL (in)

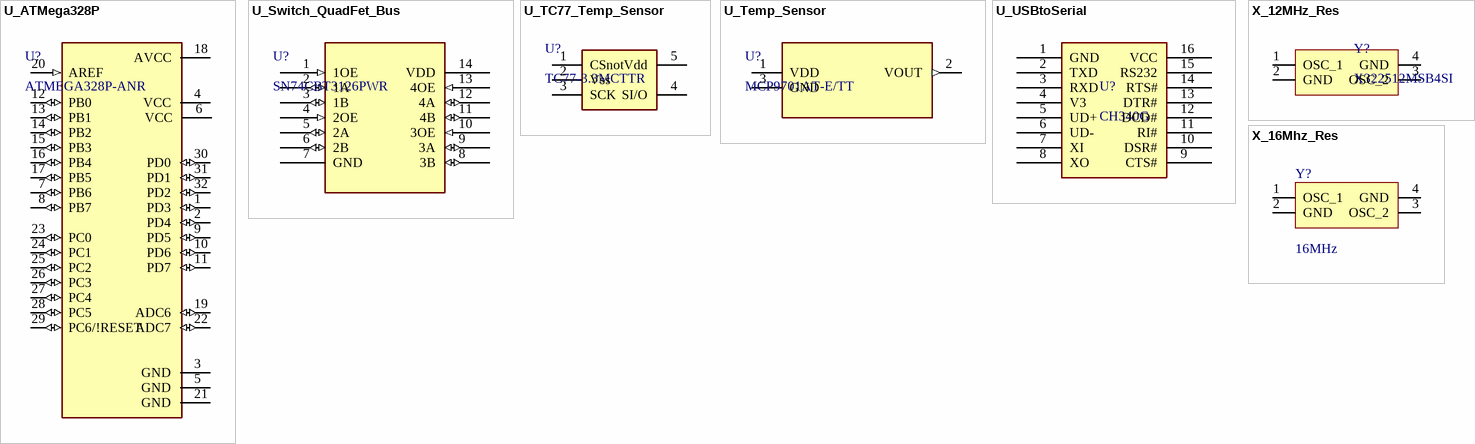
[diagram p2: symbols U_ATMega328P to X_16Mhz_Res]

## U_ATMega328P
designator U?, comment ATMEGA328P-ANR
AVR AVR® ATmega Microcontroller IC 8-Bit 20MHz 32KB (16K x 16) FLASH 32-TQFP (7x7); MFR Part #: ATMEGA328P-AU; Value: IC MCU 8BIT 32KB FLASH 32TQFP; Digikey Link: https://www.digikey.com/product-detail/en/ATMEGA328P-ANR/ATMEGA328P-ANRCT-ND/2774230/?itemSeq=304982365; LCSC Part#: C14877; Type: Basic
footprint ATMega328P
pins: 1 PD3 (io), 2 PD4 (io), 3 GND (power), 4 VCC (power), 5 GND (power), 6 VCC (power), 7 PB6 (io), 8 PB7 (io), 9 PD5 (io), 10 PD6 (io), 11 PD7 (io), 12 PB0 (io), 13 PB1 (io), 14 PB2 (io), 15 PB3 (io), 16 PB4 (io), 17 PB5 (io), 18 AVCC (power), 19 ADC6 (io), 20 AREF (in), 21 GND (power), 22 ADC7 (io), 23 PC0 (io), 24 PC1 (io), 25 PC2 (io), 26 PC3 (io), 27 PC4 (io), 28 PC5 (io), 29 PC6/!RESET (io), 30 PD0 (io), 31 PD1 (io), 32 PD2 (io)

## U_Switch_QuadFet_Bus
designator U?, comment SN74CBT3126PWR
Quadruple FET Bus Switch 74 SERIES BUS SWITCH 4.5V ~ 5.5V TSSOP-14 ROHS; Manufacturer: Texas Instruments; Datasheet_URL: http://www.ti.com/lit/gpn/SN74CBT3126; LCSC Part #: C7142; MFR Part#: SN74CBT3126PWR
footprint Switch_Quad_FET_PW14
pins: 1 1OE (in), 2 1A (io), 3 1B (io), 4 2OE (in), 5 2A (io), 6 2B (io), 7 GND (power), 8 3B (io), 9 3A (io), 10 3OE (in), 11 4B (io), 12 4A (io), 13 4OE (in), 14 VDD (power)

## U_TC77_Temp_Sensor
designator U?, comment TC77-3.3MCTTR
Digital, Local SPI -55°C ~ 125°C 12 b SOT-23-5 Temperature Sensors RoHS; LCSC Part#: C56616; MFR Part #: TC77-3.3MCTTR; Type: Extended; Datasheet: https://datasheet.lcsc.com/szlcsc/Microchip-Tech-TC77-3-3MCTTR_C56616.pdf
footprint TMP_Sensor_TXC77 (5 Lead SOT23)
pins: 1 CSnot, 2 Vss (power), 3 SCK, 4 SI/O, 5 Vdd (power)

## U_Temp_Sensor
designator U?, comment MCP9701AT-E/TT
19.5mV /°C TEMPERATURE SENSOR SOT-23(SOT-23-3) ROHS; MF: Microchip; Price: None; Package: SOT-23-3 Microchip; LCSC Part#: C150830; MP: MCP9701AT-E/TT; SnapEDA_Link: https://www.snapeda.com/parts/MCP9701AT-E/TT/Microchip/view-part/425043/?ref=snap; Type: Extended
footprint Temp_Sensor_SOT95P237X112-3N
pins: 1 VDD (power), 2 VOUT (out), 3 GND

## U_USBtoSerial
designator U?, comment CH340G
Transceiver USB 2.0 2Mbps SOP-16_150mil USB ICs RoHS; Value: USB to Serial; Datasheet: https://datasheet.lcsc.com/lcsc/2008191806_WCH-Jiangsu-Qin-Heng-CH340G_C14267.pdf; LCSC Part#: C14267; MFR Part #: CH340G; Type: Basic
footprint USB to serial
pins: 1 GND, 2 TXD, 3 RXD, 4 V3, 5 UD+, 6 UD-, 7 XI, 8 XO, 9 CTS#, 10 DSR#, 11 RI#, 12 DCD#, 13 DTR#, 14 RTS#, 15 RS232, 16 VCC

## X_12MHz_Res
designator Y?, comment X322512MSB4SI
SMD Crystal Resonators 12MHz ±10ppm SMD-3225_4P RoHS; LCSC Part#: C9002; MFR Part #: X322512MSB4SI; Value: 12MHz; Type: Basic; Datasheet: https://datasheet.lcsc.com/szlcsc/Yangxing-Tech-X322512MSB4SI_C9002.pdf
footprint 12MHz- res
footprint Crystal resonator
pins: 1 OSC_1, 2 GND, 3 OSC_2, 4 GND

## X_16Mhz_Res
designator Y?, comment value 16MHz  (hidden comment: X322516MLB4SI)
±10ppm 16000000Hz -40℃~85℃ 贴片无源晶振 60Ω 9pF SMD3225-4P Crystals ROHS; LCSC Part#: C13738; MFR Part #: X322516MLB4SI; Type: Basic
footprint Crystal resonator
pins: 1 OSC_1, 2 GND, 3 OSC_2, 4 GND